# EAGLE library part PIC16F628A-COMP (library mcu)
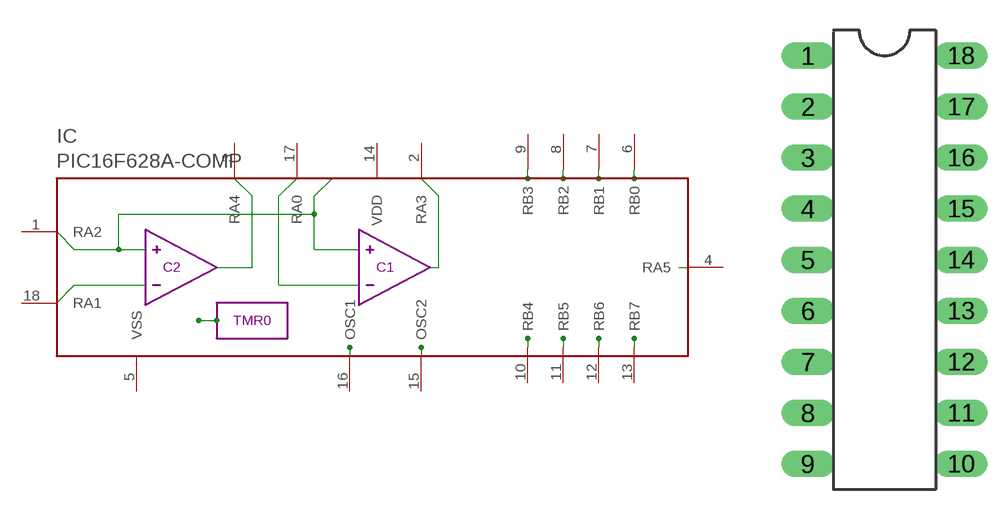
[diagram p8: symbol with the pads of DIL18-3/V; footprint DIL18-3/V]

Designator prefix IC

## PIC16F628A-COMP  [DIL18-3/V]
1  RA2  pas
2  RA3  pas
3  RA4  pas
4  RA5  pas
5  VSS  pas
6  RB0  pas
7  RB1  pas
8  RB2  pas
9  RB3  pas
10  RB4  pas
11  RB5  pas
12  RB6  pas
13  RB7  pas
14  VDD  pas
15  OSC2  pas
16  OSC1  pas
17  RA0  pas
18  RA1  pas

## Footprint DIL18-3/V (pad centres in mm)
drill 0.813 long: 1 -3.81,10.16; 2 -3.81,7.62; 3 -3.81,5.08; 4 -3.81,2.54; 5 -3.81,0; 6 -3.81,-2.54; 7 -3.81,-5.08; 8 -3.81,-7.62; 9 -3.81,-10.16; 10 3.81,-10.16; 11 3.81,-7.62; 12 3.81,-5.08; 13 3.81,-2.54; 14 3.81,0; 15 3.81,2.54; 16 3.81,5.08; 17 3.81,7.62; 18 3.81,10.16